# Altium integrated library NSC Logic Gate.IntLib: 603 symbols (part 8 of 13)
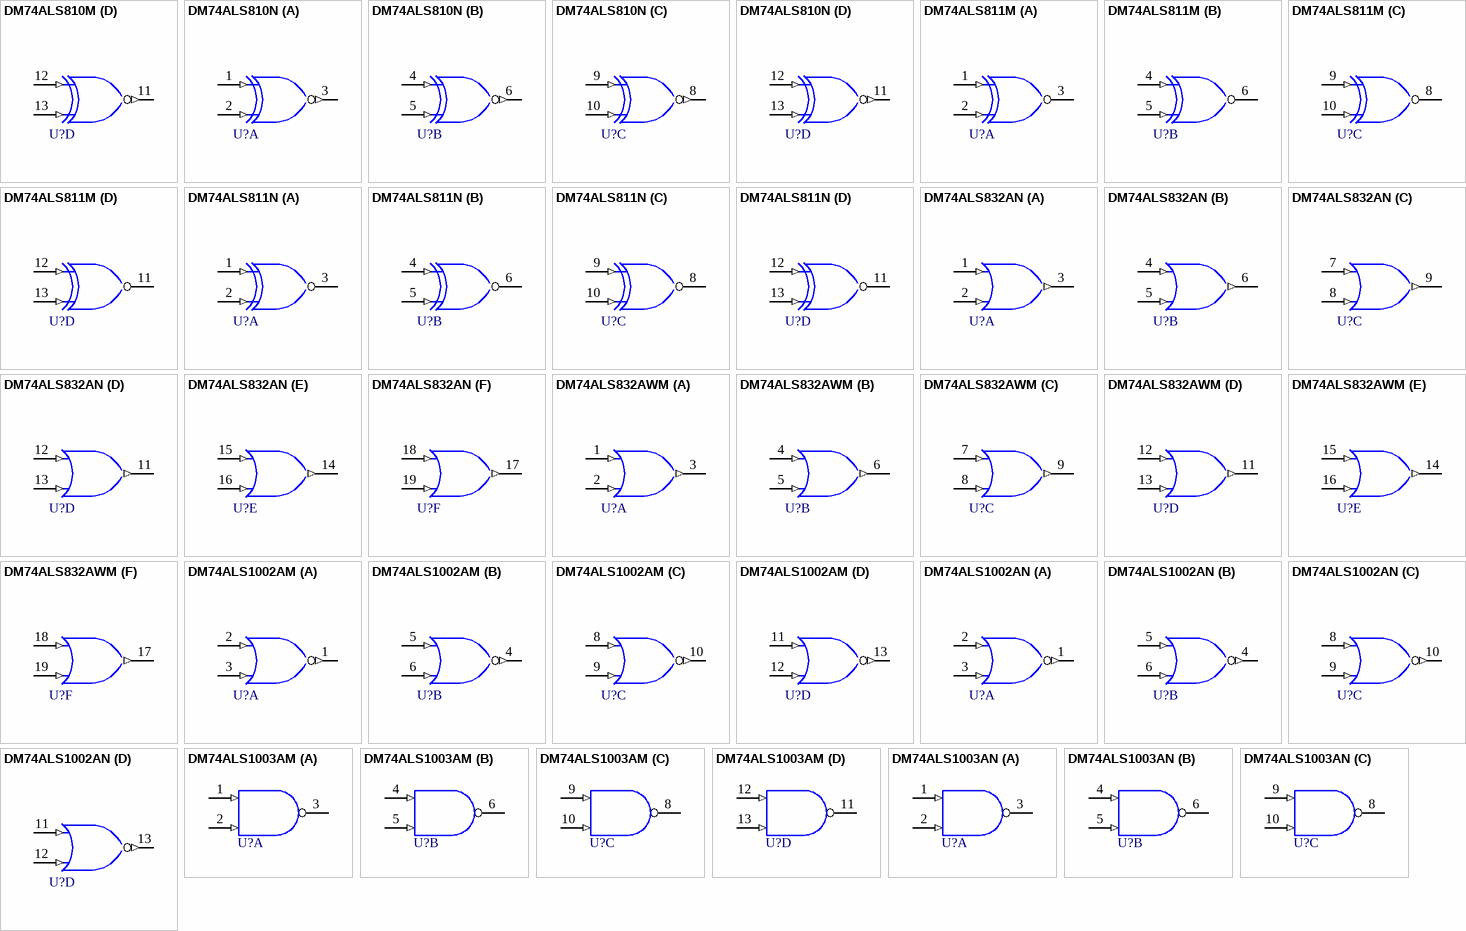
[diagram p61: symbols DM74ALS810M to DM74ALS1003AN]

## DM74ALS810M
designator U?
Quad 2-Input Exclusive-NOR Gates; Published: 15-Apr-2002; LatestRevisionDate: 13-Apr-2006; LatestRevisionNote: IPC-7351 Footprint Added.; DatasheetVersion: 1987; PackageVersion: 2000; PackageReference: M14A; Publisher: Altium Limited; PackageDescription: 14-Pin Small Outline Integrated Circuit 1.27 mm Pitch; Code_IPC: SOIC127P600-14; ComponentLink1Description: Manufacturer Link; ComponentLink1URL: http://www.national.com/
footprint M14A_N (SOIC, 14-Leads, Body 8.6x3.9mm, Pitch 1.27mm, IPC Medium Density)
footprint M14A_L (SOIC, 14-Leads, Body 8.6x3.9mm, Pitch 1.27mm, IPC High Density)
footprint M14A_M (SOIC, 14-Leads, Body 8.6x3.9mm, Pitch 1.27mm, IPC Low Density)
3D model M14A (14-Pin Small Outline Integrated Circuit 1.27 mm Pitch)
signal-integrity model DM74ALS810M
pins on every part: 7 GND (power) hidden to GND, 14 VCC (power) hidden to VCC
part A pins: 1 A (in), 2 B (in), 3 Y (out)
part B pins: 4 A (in), 5 B (in), 6 Y (out)
part C pins: 8 Y (out), 9 A (in), 10 B (in)
part D pins: 11 Y (out), 12 A (in), 13 B (in)

## DM74ALS810N
designator U?
Quad 2-Input Exclusive-NOR Gates; Published: 15-Apr-2002; LatestRevisionDate: 06-Jun-2005; LatestRevisionNote: Stylized 3D Model Added.; DatasheetVersion: 1987; PackageVersion: 2000; PackageReference: N14A; Publisher: Altium Limited; PackageDescription: DIP; 14 Leads; Row Spacing 7.62 mm; Pitch 2.54 mm; ComponentLink1Description: Manufacturer Link; ComponentLink1URL: http://www.national.com/
footprint N14A (DIP; 14 Leads; Row Spacing 7.62 mm; Pitch 2.54 mm)
3D model N14A (DIP; 14 Leads; Row Spacing 7.62 mm; Pitch 2.54 mm)
signal-integrity model DM74ALS810N
pins on every part: 7 GND (power) hidden to GND, 14 VCC (power) hidden to VCC
part A pins: 1 A (in), 2 B (in), 3 Y (out)
part B pins: 4 A (in), 5 B (in), 6 Y (out)
part C pins: 8 Y (out), 9 A (in), 10 B (in)
part D pins: 11 Y (out), 12 A (in), 13 B (in)

## DM74ALS811M
designator U?
Quad 2-Input Exclusive-NOR Gates with Open-Collector Outputs; Published: 15-Apr-2002; LatestRevisionDate: 13-Apr-2006; LatestRevisionNote: IPC-7351 Footprint Added.; DatasheetVersion: 1987; PackageVersion: 2000; PackageReference: M14A; Publisher: Altium Limited; PackageDescription: 14-Pin Small Outline Integrated Circuit 1.27 mm Pitch; Code_IPC: SOIC127P600-14; ComponentLink1Description: Manufacturer Link; ComponentLink1URL: http://www.national.com/
footprint M14A_N (SOIC, 14-Leads, Body 8.6x3.9mm, Pitch 1.27mm, IPC Medium Density)
footprint M14A_L (SOIC, 14-Leads, Body 8.6x3.9mm, Pitch 1.27mm, IPC High Density)
footprint M14A_M (SOIC, 14-Leads, Body 8.6x3.9mm, Pitch 1.27mm, IPC Low Density)
3D model M14A (14-Pin Small Outline Integrated Circuit 1.27 mm Pitch)
signal-integrity model DM74ALS811M
pins on every part: 7 GND (power) hidden to GND, 14 VCC (power) hidden to VCC
part A pins: 1 A (in), 2 B (in), 3 Y (oc)
part B pins: 4 A (in), 5 B (in), 6 Y (oc)
part C pins: 8 Y (oc), 9 A (in), 10 B (in)
part D pins: 11 Y (oc), 12 A (in), 13 B (in)

## DM74ALS811N
designator U?
Quad 2-Input Exclusive-NOR Gates with Open-Collector Outputs; Published: 15-Apr-2002; LatestRevisionDate: 06-Jun-2005; LatestRevisionNote: Stylized 3D Model Added.; DatasheetVersion: 1987; PackageVersion: 2000; PackageReference: N14A; Publisher: Altium Limited; PackageDescription: DIP; 14 Leads; Row Spacing 7.62 mm; Pitch 2.54 mm; ComponentLink1Description: Manufacturer Link; ComponentLink1URL: http://www.national.com/
footprint N14A (DIP; 14 Leads; Row Spacing 7.62 mm; Pitch 2.54 mm)
3D model N14A (DIP; 14 Leads; Row Spacing 7.62 mm; Pitch 2.54 mm)
signal-integrity model DM74ALS811N
pins on every part: 7 GND (power) hidden to GND, 14 VCC (power) hidden to VCC
part A pins: 1 A (in), 2 B (in), 3 Y (oc)
part B pins: 4 A (in), 5 B (in), 6 Y (oc)
part C pins: 8 Y (oc), 9 A (in), 10 B (in)
part D pins: 11 Y (oc), 12 A (in), 13 B (in)

## DM74ALS832AN
designator U?
Hex 2-Input OR Drivers; Published: 15-Apr-2002; LatestRevisionDate: 06-Jun-2005; LatestRevisionNote: Stylized 3D Model Added.; DatasheetVersion: 1987; PackageVersion: 2000; PackageReference: N20A; Publisher: Altium Limited; PackageDescription: DIP; 20 Leads; Row Spacing 7.62 mm; Pitch 2.54 mm; Code_JEDEC: MS-001-AD; ComponentLink1Description: Manufacturer Link; ComponentLink1URL: http://www.national.com/
footprint N20A (DIP; 20 Leads; Row Spacing 7.62 mm; Pitch 2.54 mm)
3D model N20A (DIP; 20 Leads; Row Spacing 7.62 mm; Pitch 2.54 mm)
signal-integrity model DM74ALS832AN
pins on every part: 10 GND (power) hidden to GND, 20 VCC (power) hidden to VCC
part A pins: 1 A (in), 2 B (in), 3 Y (out)
part B pins: 4 A (in), 5 B (in), 6 Y (out)
part C pins: 7 A (in), 8 B (in), 9 Y (out)
part D pins: 11 Y (out), 12 A (in), 13 B (in)
part E pins: 14 Y (out), 15 A (in), 16 B (in)
part F pins: 17 Y (out), 18 A (in), 19 B (in)

## DM74ALS832AWM
designator U?
Hex 2-Input OR Drivers; Published: 15-Apr-2002; LatestRevisionDate: 13-Apr-2006; LatestRevisionNote: IPC-7351 Footprint Added.; DatasheetVersion: 1987; PackageVersion: 2000; PackageReference: M20B; Publisher: Altium Limited; PackageDescription: 20-Pin Small Outline Integrated Circuit 1.27 mm Pitch; Code_JEDEC: MS-013-AC; Code_IPC: SOIC127P1030-20; ComponentLink1Description: Manufacturer Link; ComponentLink1URL: http://www.national.com/
footprint M20B_N (SOIC, 20-Leads, Body 12.8x7.5mm, Pitch 1.27mm, IPC Medium Density)
footprint M20B_L (SOIC, 20-Leads, Body 12.8x7.5mm, Pitch 1.27mm, IPC High Density)
footprint M20B_M (SOIC, 20-Leads, Body 12.8x7.5mm, Pitch 1.27mm, IPC Low Density)
3D model M20B (20-Pin Small Outline Integrated Circuit 1.27 mm Pitch)
signal-integrity model DM74ALS832AWM
pins on every part: 10 GND (power) hidden to GND, 20 VCC (power) hidden to VCC
part A pins: 1 A (in), 2 B (in), 3 Y (out)
part B pins: 4 A (in), 5 B (in), 6 Y (out)
part C pins: 7 A (in), 8 B (in), 9 Y (out)
part D pins: 11 Y (out), 12 A (in), 13 B (in)
part E pins: 14 Y (out), 15 A (in), 16 B (in)
part F pins: 17 Y (out), 18 A (in), 19 B (in)

## DM74ALS1002AM
designator U?
Quadruple 2-Input Positive-NOR Buffers; Published: 15-Apr-2002; LatestRevisionDate: 13-Apr-2006; LatestRevisionNote: IPC-7351 Footprint Added.; DatasheetVersion: 1987; PackageVersion: 2000; PackageReference: M14A; Publisher: Altium Limited; PackageDescription: 14-Pin Small Outline Integrated Circuit 1.27 mm Pitch; Code_IPC: SOIC127P600-14; ComponentLink1Description: Manufacturer Link; ComponentLink1URL: http://www.national.com/
footprint M14A_N (SOIC, 14-Leads, Body 8.6x3.9mm, Pitch 1.27mm, IPC Medium Density)
footprint M14A_L (SOIC, 14-Leads, Body 8.6x3.9mm, Pitch 1.27mm, IPC High Density)
footprint M14A_M (SOIC, 14-Leads, Body 8.6x3.9mm, Pitch 1.27mm, IPC Low Density)
3D model M14A (14-Pin Small Outline Integrated Circuit 1.27 mm Pitch)
signal-integrity model DM74ALS1002AM
pins on every part: 7 GND (power) hidden to GND, 14 VCC (power) hidden to VCC
part A pins: 1 Y (out), 2 A (in), 3 B (in)
part B pins: 4 Y (out), 5 A (in), 6 B (in)
part C pins: 8 A (in), 9 B (in), 10 Y (out)
part D pins: 11 A (in), 12 B (in), 13 Y (out)

## DM74ALS1002AN
designator U?
Quadruple 2-Input Positive-NOR Buffers; Published: 15-Apr-2002; LatestRevisionDate: 06-Jun-2005; LatestRevisionNote: Stylized 3D Model Added.; DatasheetVersion: 1987; PackageVersion: 2000; PackageReference: N14A; Publisher: Altium Limited; PackageDescription: DIP; 14 Leads; Row Spacing 7.62 mm; Pitch 2.54 mm; ComponentLink1Description: Manufacturer Link; ComponentLink1URL: http://www.national.com/
footprint N14A (DIP; 14 Leads; Row Spacing 7.62 mm; Pitch 2.54 mm)
3D model N14A (DIP; 14 Leads; Row Spacing 7.62 mm; Pitch 2.54 mm)
signal-integrity model DM74ALS1002AN
pins on every part: 7 GND (power) hidden to GND, 14 VCC (power) hidden to VCC
part A pins: 1 Y (out), 2 A (in), 3 B (in)
part B pins: 4 Y (out), 5 A (in), 6 B (in)
part C pins: 8 A (in), 9 B (in), 10 Y (out)
part D pins: 11 A (in), 12 B (in), 13 Y (out)

## DM74ALS1003AM
designator U?
Quadruple 2-Input NAND Buffers with Open-Collector Outputs; Published: 15-Apr-2002; LatestRevisionDate: 13-Apr-2006; LatestRevisionNote: IPC-7351 Footprint Added.; DatasheetVersion: 1987; PackageVersion: 2000; PackageReference: M14A; Publisher: Altium Limited; PackageDescription: 14-Pin Small Outline Integrated Circuit 1.27 mm Pitch; Code_IPC: SOIC127P600-14; ComponentLink1Description: Manufacturer Link; ComponentLink1URL: http://www.national.com/
footprint M14A_N (SOIC, 14-Leads, Body 8.6x3.9mm, Pitch 1.27mm, IPC Medium Density)
footprint M14A_L (SOIC, 14-Leads, Body 8.6x3.9mm, Pitch 1.27mm, IPC High Density)
footprint M14A_M (SOIC, 14-Leads, Body 8.6x3.9mm, Pitch 1.27mm, IPC Low Density)
3D model M14A (14-Pin Small Outline Integrated Circuit 1.27 mm Pitch)
signal-integrity model DM74ALS1003AM
pins on every part: 7 GND (power) hidden to GND, 14 VCC (power) hidden to VCC
part A pins: 1 A (in), 2 B (in), 3 Y (oc)
part B pins: 4 A (in), 5 B (in), 6 Y (oc)
part C pins: 8 Y (oc), 9 A (in), 10 B (in)
part D pins: 11 Y (oc), 12 A (in), 13 B (in)

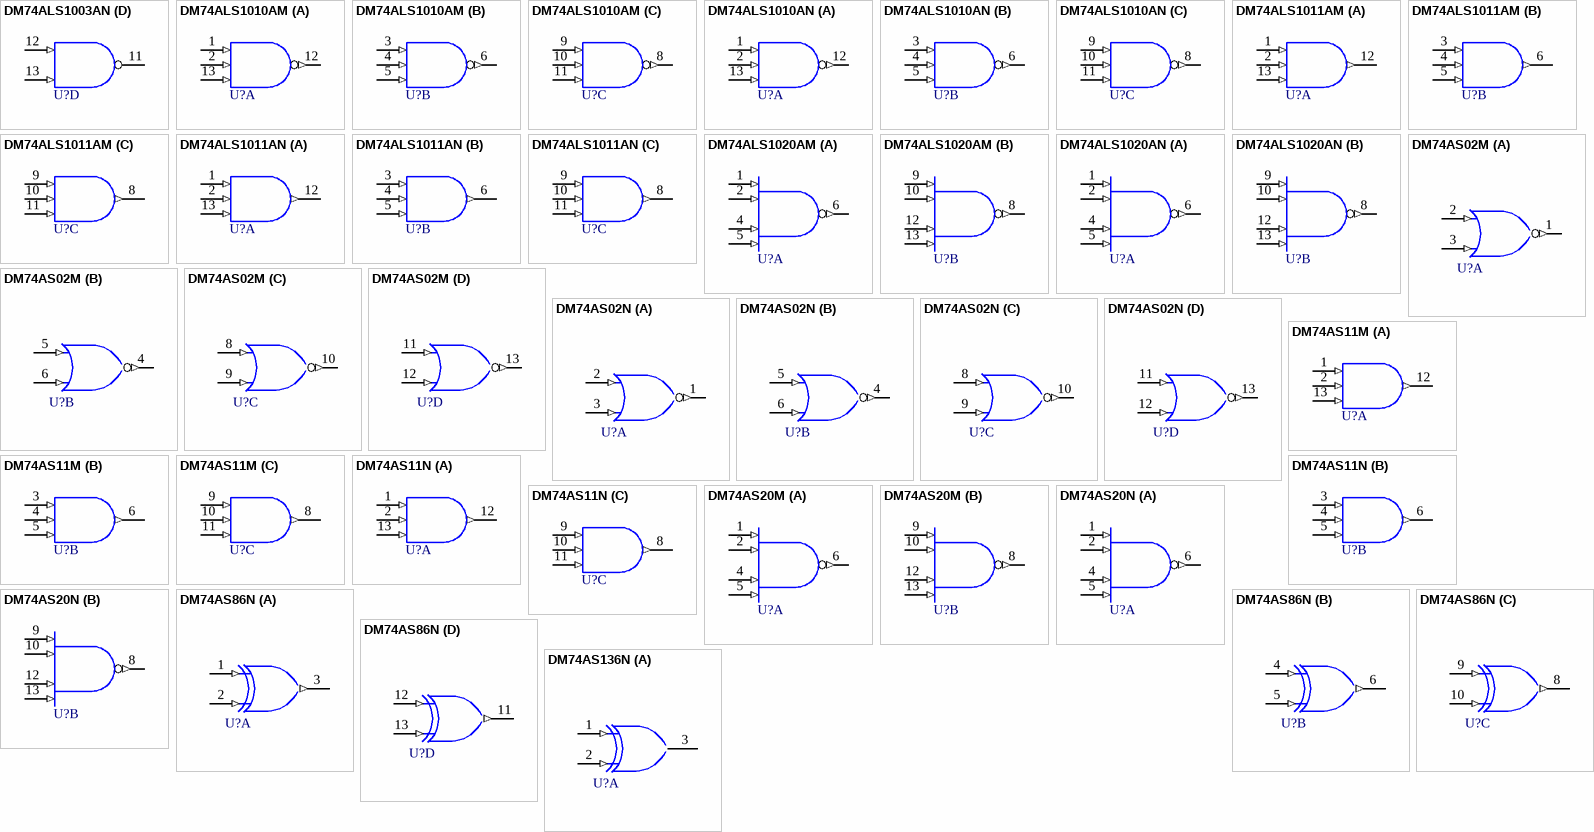
[diagram p31: symbols DM74ALS1003AN to DM74AS136N]

## DM74ALS1003AN
designator U?
Quadruple 2-Input NAND Buffers with Open-Collector Outputs; Published: 15-Apr-2002; LatestRevisionDate: 06-Jun-2005; LatestRevisionNote: Stylized 3D Model Added.; DatasheetVersion: 1987; PackageVersion: 2000; PackageReference: N14A; Publisher: Altium Limited; PackageDescription: DIP; 14 Leads; Row Spacing 7.62 mm; Pitch 2.54 mm; ComponentLink1Description: Manufacturer Link; ComponentLink1URL: http://www.national.com/
footprint N14A (DIP; 14 Leads; Row Spacing 7.62 mm; Pitch 2.54 mm)
3D model N14A (DIP; 14 Leads; Row Spacing 7.62 mm; Pitch 2.54 mm)
signal-integrity model DM74ALS1003AN
pins on every part: 7 GND (power) hidden to GND, 14 VCC (power) hidden to VCC
part A pins: 1 A (in), 2 B (in), 3 Y (oc)
part B pins: 4 A (in), 5 B (in), 6 Y (oc)
part C pins: 8 Y (oc), 9 A (in), 10 B (in)
part D pins: 11 Y (oc), 12 A (in), 13 B (in)

## DM74ALS1010AM
designator U?
Triple 3-Input NAND Buffer; Published: 15-Apr-2002; LatestRevisionDate: 13-Apr-2006; LatestRevisionNote: IPC-7351 Footprint Added.; DatasheetVersion: 1987; PackageVersion: 2000; PackageReference: M14A; Publisher: Altium Limited; PackageDescription: 14-Pin Small Outline Integrated Circuit 1.27 mm Pitch; Code_IPC: SOIC127P600-14; ComponentLink1Description: Manufacturer Link; ComponentLink1URL: http://www.national.com/
footprint M14A_N (SOIC, 14-Leads, Body 8.6x3.9mm, Pitch 1.27mm, IPC Medium Density)
footprint M14A_L (SOIC, 14-Leads, Body 8.6x3.9mm, Pitch 1.27mm, IPC High Density)
footprint M14A_M (SOIC, 14-Leads, Body 8.6x3.9mm, Pitch 1.27mm, IPC Low Density)
3D model M14A (14-Pin Small Outline Integrated Circuit 1.27 mm Pitch)
signal-integrity model DM74ALS1010AM
pins on every part: 7 GND (power) hidden to GND, 14 VCC (power) hidden to VCC
part A pins: 1 A (in), 2 B (in), 12 Y (out), 13 C (in)
part B pins: 3 A (in), 4 B (in), 5 C (in), 6 Y (out)
part C pins: 8 Y (out), 9 A (in), 10 B (in), 11 C (in)

## DM74ALS1010AN
designator U?
Triple 3-Input NAND Buffer; Published: 15-Apr-2002; LatestRevisionDate: 06-Jun-2005; LatestRevisionNote: Stylized 3D Model Added.; DatasheetVersion: 1987; PackageVersion: 2000; PackageReference: N14A; Publisher: Altium Limited; PackageDescription: DIP; 14 Leads; Row Spacing 7.62 mm; Pitch 2.54 mm; ComponentLink1Description: Manufacturer Link; ComponentLink1URL: http://www.national.com/
footprint N14A (DIP; 14 Leads; Row Spacing 7.62 mm; Pitch 2.54 mm)
3D model N14A (DIP; 14 Leads; Row Spacing 7.62 mm; Pitch 2.54 mm)
signal-integrity model DM74ALS1010AN
pins on every part: 7 GND (power) hidden to GND, 14 VCC (power) hidden to VCC
part A pins: 1 A (in), 2 B (in), 12 Y (out), 13 C (in)
part B pins: 3 A (in), 4 B (in), 5 C (in), 6 Y (out)
part C pins: 8 Y (out), 9 A (in), 10 B (in), 11 C (in)

## DM74ALS1011AM
designator U?
Triple 3-Input AND Buffer; Published: 15-Apr-2002; LatestRevisionDate: 13-Apr-2006; LatestRevisionNote: IPC-7351 Footprint Added.; DatasheetVersion: 1987; PackageVersion: 2000; PackageReference: M14A; Publisher: Altium Limited; PackageDescription: 14-Pin Small Outline Integrated Circuit 1.27 mm Pitch; Code_IPC: SOIC127P600-14; ComponentLink1Description: Manufacturer Link; ComponentLink1URL: http://www.national.com/
footprint M14A_N (SOIC, 14-Leads, Body 8.6x3.9mm, Pitch 1.27mm, IPC Medium Density)
footprint M14A_L (SOIC, 14-Leads, Body 8.6x3.9mm, Pitch 1.27mm, IPC High Density)
footprint M14A_M (SOIC, 14-Leads, Body 8.6x3.9mm, Pitch 1.27mm, IPC Low Density)
3D model M14A (14-Pin Small Outline Integrated Circuit 1.27 mm Pitch)
signal-integrity model DM74ALS1011AM
pins on every part: 7 GND (power) hidden to GND, 14 VCC (power) hidden to VCC
part A pins: 1 A (in), 2 B (in), 12 Y (out), 13 C (in)
part B pins: 3 A (in), 4 B (in), 5 C (in), 6 Y (out)
part C pins: 8 Y (out), 9 A (in), 10 B (in), 11 C (in)

## DM74ALS1011AN
designator U?
Triple 3-Input AND Buffer; Published: 15-Apr-2002; LatestRevisionDate: 06-Jun-2005; LatestRevisionNote: Stylized 3D Model Added.; DatasheetVersion: 1987; PackageVersion: 2000; PackageReference: N14A; Publisher: Altium Limited; PackageDescription: DIP; 14 Leads; Row Spacing 7.62 mm; Pitch 2.54 mm; ComponentLink1Description: Manufacturer Link; ComponentLink1URL: http://www.national.com/
footprint N14A (DIP; 14 Leads; Row Spacing 7.62 mm; Pitch 2.54 mm)
3D model N14A (DIP; 14 Leads; Row Spacing 7.62 mm; Pitch 2.54 mm)
signal-integrity model DM74ALS1011AN
pins on every part: 7 GND (power) hidden to GND, 14 VCC (power) hidden to VCC
part A pins: 1 A (in), 2 B (in), 12 Y (out), 13 C (in)
part B pins: 3 A (in), 4 B (in), 5 C (in), 6 Y (out)
part C pins: 8 Y (out), 9 A (in), 10 B (in), 11 C (in)

## DM74ALS1020AM
designator U?
Dual 4-Input NAND Buffer; Note: Pins 3 and 11 are NC & not drawn.; Published: 15-Apr-2002; LatestRevisionDate: 13-Apr-2006; LatestRevisionNote: IPC-7351 Footprint Added.; DatasheetVersion: 1987; PackageVersion: 2000; PackageReference: M14A; Publisher: Altium Limited; PackageDescription: 14-Pin Small Outline Integrated Circuit 1.27 mm Pitch; Code_IPC: SOIC127P600-14; ComponentLink1Description: Manufacturer Link; ComponentLink1URL: http://www.national.com/
footprint M14A_N (SOIC, 14-Leads, Body 8.6x3.9mm, Pitch 1.27mm, IPC Medium Density)
footprint M14A_L (SOIC, 14-Leads, Body 8.6x3.9mm, Pitch 1.27mm, IPC High Density)
footprint M14A_M (SOIC, 14-Leads, Body 8.6x3.9mm, Pitch 1.27mm, IPC Low Density)
3D model M14A (14-Pin Small Outline Integrated Circuit 1.27 mm Pitch)
signal-integrity model DM74ALS1020AM
pins on every part: 7 GND (power) hidden to GND, 14 VCC (power) hidden to VCC
part A pins: 1 A (in), 2 B (in), 4 C (in), 5 D (in), 6 Y (out)
part B pins: 8 Y (out), 9 A (in), 10 B (in), 12 C (in), 13 D (in)

## DM74ALS1020AN
designator U?
Dual 4-Input NAND Buffer; Note: Pins 3 and 11 are NC & not drawn.; Published: 15-Apr-2002; LatestRevisionDate: 06-Jun-2005; LatestRevisionNote: Stylized 3D Model Added.; DatasheetVersion: 1987; PackageVersion: 2000; PackageReference: N14A; Publisher: Altium Limited; PackageDescription: DIP; 14 Leads; Row Spacing 7.62 mm; Pitch 2.54 mm; ComponentLink1Description: Manufacturer Link; ComponentLink1URL: http://www.national.com/
footprint N14A (DIP; 14 Leads; Row Spacing 7.62 mm; Pitch 2.54 mm)
3D model N14A (DIP; 14 Leads; Row Spacing 7.62 mm; Pitch 2.54 mm)
signal-integrity model DM74ALS1020AN
pins on every part: 7 GND (power) hidden to GND, 14 VCC (power) hidden to VCC
part A pins: 1 A (in), 2 B (in), 4 C (in), 5 D (in), 6 Y (out)
part B pins: 8 Y (out), 9 A (in), 10 B (in), 12 C (in), 13 D (in)

## DM74AS02M
designator U?
Quad 2-Input NOR Gates; Published: 15-Apr-2002; LatestRevisionDate: 13-Apr-2006; LatestRevisionNote: IPC-7351 Footprint Added.; DatasheetVersion: 1990; PackageVersion: 2000; PackageReference: M14A; Publisher: Altium Limited; PackageDescription: 14-Pin Small Outline Integrated Circuit 1.27 mm Pitch; Code_IPC: SOIC127P600-14; ComponentLink1Description: Manufacturer Link; ComponentLink1URL: http://www.national.com/
footprint M14A_N (SOIC, 14-Leads, Body 8.6x3.9mm, Pitch 1.27mm, IPC Medium Density)
footprint M14A_L (SOIC, 14-Leads, Body 8.6x3.9mm, Pitch 1.27mm, IPC High Density)
footprint M14A_M (SOIC, 14-Leads, Body 8.6x3.9mm, Pitch 1.27mm, IPC Low Density)
3D model M14A (14-Pin Small Outline Integrated Circuit 1.27 mm Pitch)
signal-integrity model DM74AS02M
pins on every part: 7 GND (power) hidden to GND, 14 VCC (power) hidden to VCC
part A pins: 1 Y (out), 2 A (in), 3 B (in)
part B pins: 4 Y (out), 5 A (in), 6 B (in)
part C pins: 8 A (in), 9 B (in), 10 Y (out)
part D pins: 11 A (in), 12 B (in), 13 Y (out)

## DM74AS02N
designator U?
Quad 2-Input NOR Gates; Published: 15-Apr-2002; LatestRevisionDate: 06-Jun-2005; LatestRevisionNote: Stylized 3D Model Added.; DatasheetVersion: 1990; PackageVersion: 2000; PackageReference: N14A; Publisher: Altium Limited; PackageDescription: DIP; 14 Leads; Row Spacing 7.62 mm; Pitch 2.54 mm; ComponentLink1Description: Manufacturer Link; ComponentLink1URL: http://www.national.com/
footprint N14A (DIP; 14 Leads; Row Spacing 7.62 mm; Pitch 2.54 mm)
3D model N14A (DIP; 14 Leads; Row Spacing 7.62 mm; Pitch 2.54 mm)
signal-integrity model DM74AS02N
pins on every part: 7 GND (power) hidden to GND, 14 VCC (power) hidden to VCC
part A pins: 1 Y (out), 2 A (in), 3 B (in)
part B pins: 4 Y (out), 5 A (in), 6 B (in)
part C pins: 8 A (in), 9 B (in), 10 Y (out)
part D pins: 11 A (in), 12 B (in), 13 Y (out)

## DM74AS11M
designator U?
Triple 3-Input AND Gate; Published: 15-Apr-2002; LatestRevisionDate: 13-Apr-2006; LatestRevisionNote: IPC-7351 Footprint Added.; DatasheetVersion: 1990; PackageVersion: 2000; PackageReference: M14A; Publisher: Altium Limited; PackageDescription: 14-Pin Small Outline Integrated Circuit 1.27 mm Pitch; Code_IPC: SOIC127P600-14; ComponentLink1Description: Manufacturer Link; ComponentLink1URL: http://www.national.com/
footprint M14A_N (SOIC, 14-Leads, Body 8.6x3.9mm, Pitch 1.27mm, IPC Medium Density)
footprint M14A_L (SOIC, 14-Leads, Body 8.6x3.9mm, Pitch 1.27mm, IPC High Density)
footprint M14A_M (SOIC, 14-Leads, Body 8.6x3.9mm, Pitch 1.27mm, IPC Low Density)
3D model M14A (14-Pin Small Outline Integrated Circuit 1.27 mm Pitch)
signal-integrity model DM74AS11M
pins on every part: 7 GND (power) hidden to GND, 14 VCC (power) hidden to VCC
part A pins: 1 A (in), 2 B (in), 12 Y (out), 13 C (in)
part B pins: 3 A (in), 4 B (in), 5 C (in), 6 Y (out)
part C pins: 8 Y (out), 9 A (in), 10 B (in), 11 C (in)

## DM74AS11N
designator U?
Triple 3-Input AND Gate; Published: 15-Apr-2002; LatestRevisionDate: 06-Jun-2005; LatestRevisionNote: Stylized 3D Model Added.; DatasheetVersion: 1990; PackageVersion: 2000; PackageReference: N14A; Publisher: Altium Limited; PackageDescription: DIP; 14 Leads; Row Spacing 7.62 mm; Pitch 2.54 mm; ComponentLink1Description: Manufacturer Link; ComponentLink1URL: http://www.national.com/
footprint N14A (DIP; 14 Leads; Row Spacing 7.62 mm; Pitch 2.54 mm)
3D model N14A (DIP; 14 Leads; Row Spacing 7.62 mm; Pitch 2.54 mm)
signal-integrity model DM74AS11N
pins on every part: 7 GND (power) hidden to GND, 14 VCC (power) hidden to VCC
part A pins: 1 A (in), 2 B (in), 12 Y (out), 13 C (in)
part B pins: 3 A (in), 4 B (in), 5 C (in), 6 Y (out)
part C pins: 8 Y (out), 9 A (in), 10 B (in), 11 C (in)

## DM74AS20M
designator U?
Dual 4-Input NAND Gate; Note: Pins 3 and 11 are NC & not drawn.; Published: 15-Apr-2002; LatestRevisionDate: 13-Apr-2006; LatestRevisionNote: IPC-7351 Footprint Added.; DatasheetVersion: 1990; PackageVersion: 2000; PackageReference: M14A; Publisher: Altium Limited; PackageDescription: 14-Pin Small Outline Integrated Circuit 1.27 mm Pitch; Code_IPC: SOIC127P600-14; ComponentLink1Description: Manufacturer Link; ComponentLink1URL: http://www.national.com/
footprint M14A_N (SOIC, 14-Leads, Body 8.6x3.9mm, Pitch 1.27mm, IPC Medium Density)
footprint M14A_L (SOIC, 14-Leads, Body 8.6x3.9mm, Pitch 1.27mm, IPC High Density)
footprint M14A_M (SOIC, 14-Leads, Body 8.6x3.9mm, Pitch 1.27mm, IPC Low Density)
3D model M14A (14-Pin Small Outline Integrated Circuit 1.27 mm Pitch)
signal-integrity model DM74AS20M
pins on every part: 7 GND (power) hidden to GND, 14 VCC (power) hidden to VCC
part A pins: 1 A (in), 2 B (in), 4 C (in), 5 D (in), 6 Y (out)
part B pins: 8 Y (out), 9 A (in), 10 B (in), 12 C (in), 13 D (in)

## DM74AS20N
designator U?
Dual 4-Input NAND Gate; Note: Pins 3 and 11 are NC & not drawn.; Published: 15-Apr-2002; LatestRevisionDate: 06-Jun-2005; LatestRevisionNote: Stylized 3D Model Added.; DatasheetVersion: 1990; PackageVersion: 2000; PackageReference: N14A; Publisher: Altium Limited; PackageDescription: DIP; 14 Leads; Row Spacing 7.62 mm; Pitch 2.54 mm; ComponentLink1Description: Manufacturer Link; ComponentLink1URL: http://www.national.com/
footprint N14A (DIP; 14 Leads; Row Spacing 7.62 mm; Pitch 2.54 mm)
3D model N14A (DIP; 14 Leads; Row Spacing 7.62 mm; Pitch 2.54 mm)
signal-integrity model DM74AS20N
pins on every part: 7 GND (power) hidden to GND, 14 VCC (power) hidden to VCC
part A pins: 1 A (in), 2 B (in), 4 C (in), 5 D (in), 6 Y (out)
part B pins: 8 Y (out), 9 A (in), 10 B (in), 12 C (in), 13 D (in)

## DM74AS86N
designator U?
Quad 2-Input Exclusive-OR Gate; Published: 15-Apr-2002; LatestRevisionDate: 06-Jun-2005; LatestRevisionNote: Stylized 3D Model Added.; DatasheetVersion: 1990; PackageVersion: 2000; PackageReference: N14A; Publisher: Altium Limited; PackageDescription: DIP; 14 Leads; Row Spacing 7.62 mm; Pitch 2.54 mm; ComponentLink1Description: Manufacturer Link; ComponentLink1URL: http://www.national.com/
footprint N14A (DIP; 14 Leads; Row Spacing 7.62 mm; Pitch 2.54 mm)
3D model N14A (DIP; 14 Leads; Row Spacing 7.62 mm; Pitch 2.54 mm)
signal-integrity model DM74AS86N
pins on every part: 7 GND (power) hidden to GND, 14 VCC (power) hidden to VCC
part A pins: 1 A (in), 2 B (in), 3 Y (out)
part B pins: 4 A (in), 5 B (in), 6 Y (out)
part C pins: 8 Y (out), 9 A (in), 10 B (in)
part D pins: 11 Y (out), 12 A (in), 13 B (in)

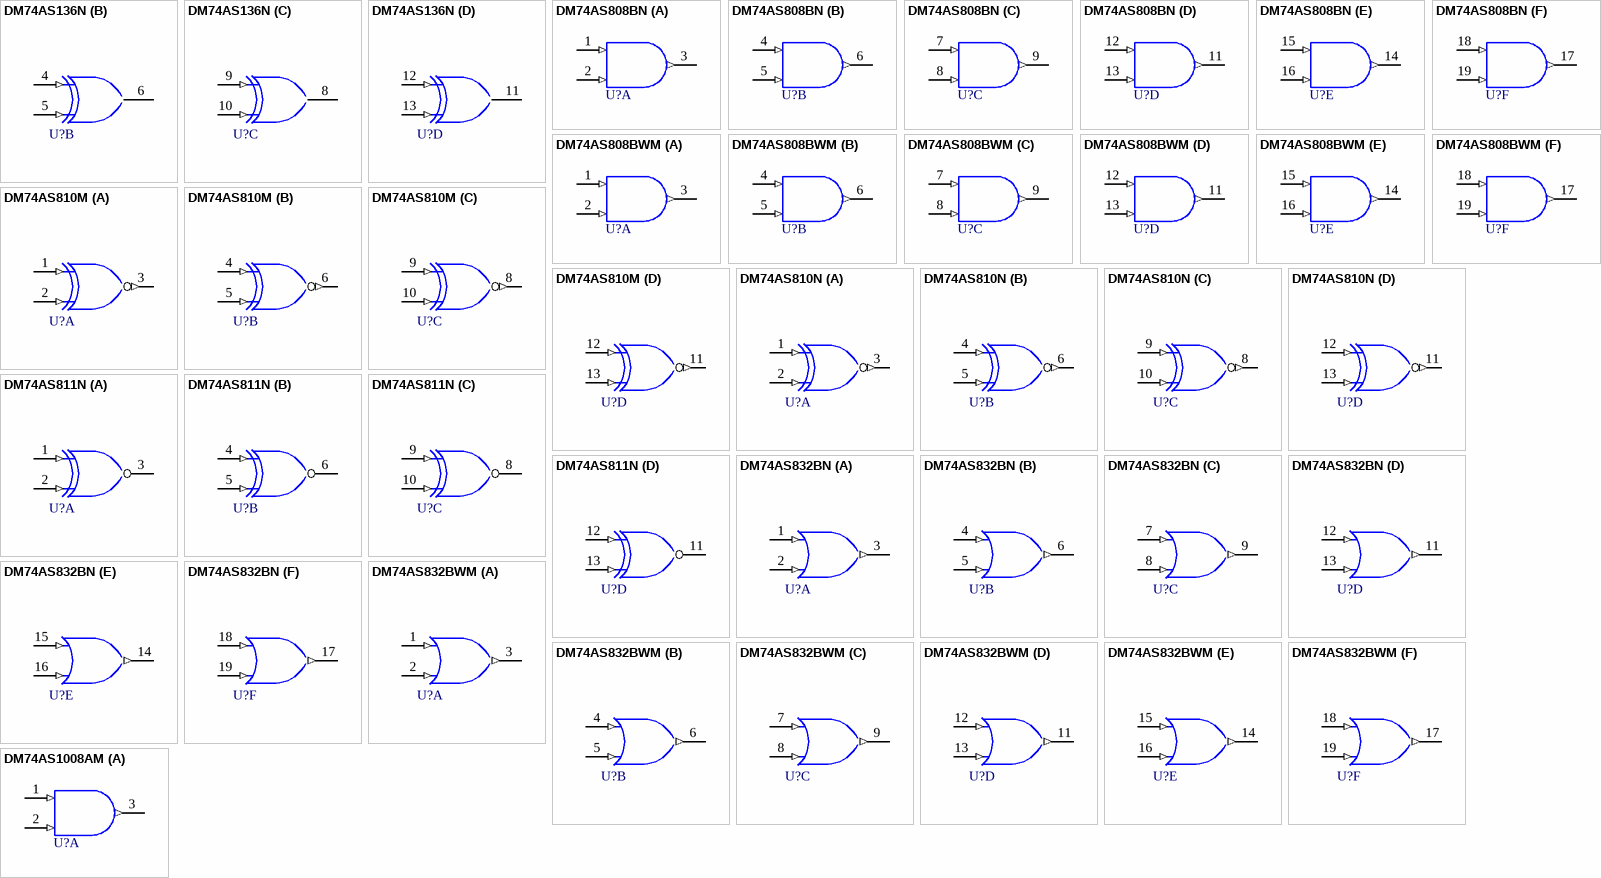
[diagram p32: symbols DM74AS136N to DM74AS1008AM]

## DM74AS136N
designator U?
Quad 2-Input Exclusive-OR Gate with Open-Collector Outputs; Published: 15-Apr-2002; LatestRevisionDate: 06-Jun-2005; LatestRevisionNote: Stylized 3D Model Added.; DatasheetVersion: 1990; PackageVersion: 2000; PackageReference: N14A; Publisher: Altium Limited; PackageDescription: DIP; 14 Leads; Row Spacing 7.62 mm; Pitch 2.54 mm; ComponentLink1Description: Manufacturer Link; ComponentLink1URL: http://www.national.com/
footprint N14A (DIP; 14 Leads; Row Spacing 7.62 mm; Pitch 2.54 mm)
3D model N14A (DIP; 14 Leads; Row Spacing 7.62 mm; Pitch 2.54 mm)
signal-integrity model DM74AS136N
pins on every part: 7 GND (power) hidden to GND, 14 VCC (power) hidden to VCC
part A pins: 1 A (in), 2 B (in), 3 Y (oc)
part B pins: 4 A (in), 5 B (in), 6 Y (oc)
part C pins: 8 Y (oc), 9 A (in), 10 B (in)
part D pins: 11 Y (oc), 12 A (in), 13 B (in)

## DM74AS808BN
designator U?
Hex 2-Input AND Driver; Published: 15-Apr-2002; LatestRevisionDate: 06-Jun-2005; LatestRevisionNote: Stylized 3D Model Added.; DatasheetVersion: 1990; PackageVersion: 2000; PackageReference: N20A; Publisher: Altium Limited; PackageDescription: DIP; 20 Leads; Row Spacing 7.62 mm; Pitch 2.54 mm; Code_JEDEC: MS-001-AD; ComponentLink1Description: Manufacturer Link; ComponentLink1URL: http://www.national.com/
footprint N20A (DIP; 20 Leads; Row Spacing 7.62 mm; Pitch 2.54 mm)
3D model N20A (DIP; 20 Leads; Row Spacing 7.62 mm; Pitch 2.54 mm)
signal-integrity model DM74AS808BN
pins on every part: 10 GND (power) hidden to GND, 20 VCC (power) hidden to VCC
part A pins: 1 A (in), 2 B (in), 3 Y (out)
part B pins: 4 A (in), 5 B (in), 6 Y (out)
part C pins: 7 A (in), 8 B (in), 9 Y (out)
part D pins: 11 Y (out), 12 A (in), 13 B (in)
part E pins: 14 Y (out), 15 A (in), 16 B (in)
part F pins: 17 Y (out), 18 A (in), 19 B (in)

## DM74AS808BWM
designator U?
Hex 2-Input AND Driver; Published: 15-Apr-2002; LatestRevisionDate: 13-Apr-2006; LatestRevisionNote: IPC-7351 Footprint Added.; DatasheetVersion: 1990; PackageVersion: 2000; PackageReference: M20B; Publisher: Altium Limited; PackageDescription: 20-Pin Small Outline Integrated Circuit 1.27 mm Pitch; Code_JEDEC: MS-013-AC; Code_IPC: SOIC127P1030-20; ComponentLink1Description: Manufacturer Link; ComponentLink1URL: http://www.national.com/
footprint M20B_N (SOIC, 20-Leads, Body 12.8x7.5mm, Pitch 1.27mm, IPC Medium Density)
footprint M20B_L (SOIC, 20-Leads, Body 12.8x7.5mm, Pitch 1.27mm, IPC High Density)
footprint M20B_M (SOIC, 20-Leads, Body 12.8x7.5mm, Pitch 1.27mm, IPC Low Density)
3D model M20B (20-Pin Small Outline Integrated Circuit 1.27 mm Pitch)
signal-integrity model DM74AS808BWM
pins on every part: 10 GND (power) hidden to GND, 20 VCC (power) hidden to VCC
part A pins: 1 A (in), 2 B (in), 3 Y (out)
part B pins: 4 A (in), 5 B (in), 6 Y (out)
part C pins: 7 A (in), 8 B (in), 9 Y (out)
part D pins: 11 Y (out), 12 A (in), 13 B (in)
part E pins: 14 Y (out), 15 A (in), 16 B (in)
part F pins: 17 Y (out), 18 A (in), 19 B (in)

## DM74AS810M
designator U?
Quad 2-Input Exclusive-NOR Gate; Published: 15-Apr-2002; LatestRevisionDate: 13-Apr-2006; LatestRevisionNote: IPC-7351 Footprint Added.; DatasheetVersion: 1990; PackageVersion: 2000; PackageReference: M14A; Publisher: Altium Limited; PackageDescription: 14-Pin Small Outline Integrated Circuit 1.27 mm Pitch; Code_IPC: SOIC127P600-14; ComponentLink1Description: Manufacturer Link; ComponentLink1URL: http://www.national.com/
footprint M14A_N (SOIC, 14-Leads, Body 8.6x3.9mm, Pitch 1.27mm, IPC Medium Density)
footprint M14A_L (SOIC, 14-Leads, Body 8.6x3.9mm, Pitch 1.27mm, IPC High Density)
footprint M14A_M (SOIC, 14-Leads, Body 8.6x3.9mm, Pitch 1.27mm, IPC Low Density)
3D model M14A (14-Pin Small Outline Integrated Circuit 1.27 mm Pitch)
signal-integrity model DM74AS810M
pins on every part: 7 GND (power) hidden to GND, 14 VCC (power) hidden to VCC
part A pins: 1 A (in), 2 B (in), 3 Y (out)
part B pins: 4 A (in), 5 B (in), 6 Y (out)
part C pins: 8 Y (out), 9 A (in), 10 B (in)
part D pins: 11 Y (out), 12 A (in), 13 B (in)

## DM74AS810N
designator U?
Quad 2-Input Exclusive-NOR Gate; Published: 15-Apr-2002; LatestRevisionDate: 06-Jun-2005; LatestRevisionNote: Stylized 3D Model Added.; DatasheetVersion: 1990; PackageVersion: 2000; PackageReference: N14A; Publisher: Altium Limited; PackageDescription: DIP; 14 Leads; Row Spacing 7.62 mm; Pitch 2.54 mm; ComponentLink1Description: Manufacturer Link; ComponentLink1URL: http://www.national.com/
footprint N14A (DIP; 14 Leads; Row Spacing 7.62 mm; Pitch 2.54 mm)
3D model N14A (DIP; 14 Leads; Row Spacing 7.62 mm; Pitch 2.54 mm)
signal-integrity model DM74AS810N
pins on every part: 7 GND (power) hidden to GND, 14 VCC (power) hidden to VCC
part A pins: 1 A (in), 2 B (in), 3 Y (out)
part B pins: 4 A (in), 5 B (in), 6 Y (out)
part C pins: 8 Y (out), 9 A (in), 10 B (in)
part D pins: 11 Y (out), 12 A (in), 13 B (in)

## DM74AS811N
designator U?
Quad 2-Input Exclusive-NOR Gate with Open-Collector Outputs; Published: 15-Apr-2002; LatestRevisionDate: 06-Jun-2005; LatestRevisionNote: Stylized 3D Model Added.; DatasheetVersion: 1990; PackageVersion: 2000; PackageReference: N14A; Publisher: Altium Limited; PackageDescription: DIP; 14 Leads; Row Spacing 7.62 mm; Pitch 2.54 mm; ComponentLink1Description: Manufacturer Link; ComponentLink1URL: http://www.national.com/
footprint N14A (DIP; 14 Leads; Row Spacing 7.62 mm; Pitch 2.54 mm)
3D model N14A (DIP; 14 Leads; Row Spacing 7.62 mm; Pitch 2.54 mm)
signal-integrity model DM74AS811N
pins on every part: 7 GND (power) hidden to GND, 14 VCC (power) hidden to VCC
part A pins: 1 A (in), 2 B (in), 3 Y (oc)
part B pins: 4 A (in), 5 B (in), 6 Y (oc)
part C pins: 8 Y (oc), 9 A (in), 10 B (in)
part D pins: 11 Y (oc), 12 A (in), 13 B (in)

## DM74AS832BN
designator U?
Hex 2-Input OR Driver; Published: 15-Apr-2002; LatestRevisionDate: 06-Jun-2005; LatestRevisionNote: Stylized 3D Model Added.; DatasheetVersion: 1990; PackageVersion: 2000; PackageReference: N20A; Publisher: Altium Limited; PackageDescription: DIP; 20 Leads; Row Spacing 7.62 mm; Pitch 2.54 mm; Code_JEDEC: MS-001-AD; ComponentLink1Description: Manufacturer Link; ComponentLink1URL: http://www.national.com/
footprint N20A (DIP; 20 Leads; Row Spacing 7.62 mm; Pitch 2.54 mm)
3D model N20A (DIP; 20 Leads; Row Spacing 7.62 mm; Pitch 2.54 mm)
signal-integrity model DM74AS832BN
pins on every part: 10 GND (power) hidden to GND, 20 VCC (power) hidden to VCC
part A pins: 1 A (in), 2 B (in), 3 Y (out)
part B pins: 4 A (in), 5 B (in), 6 Y (out)
part C pins: 7 A (in), 8 B (in), 9 Y (out)
part D pins: 11 Y (out), 12 A (in), 13 B (in)
part E pins: 14 Y (out), 15 A (in), 16 B (in)
part F pins: 17 Y (out), 18 A (in), 19 B (in)

## DM74AS832BWM
designator U?
Hex 2-Input OR Driver; Published: 15-Apr-2002; LatestRevisionDate: 13-Apr-2006; LatestRevisionNote: IPC-7351 Footprint Added.; DatasheetVersion: 1990; PackageVersion: 2000; PackageReference: M20B; Publisher: Altium Limited; PackageDescription: 20-Pin Small Outline Integrated Circuit 1.27 mm Pitch; Code_JEDEC: MS-013-AC; Code_IPC: SOIC127P1030-20; ComponentLink1Description: Manufacturer Link; ComponentLink1URL: http://www.national.com/
footprint M20B_N (SOIC, 20-Leads, Body 12.8x7.5mm, Pitch 1.27mm, IPC Medium Density)
footprint M20B_L (SOIC, 20-Leads, Body 12.8x7.5mm, Pitch 1.27mm, IPC High Density)
footprint M20B_M (SOIC, 20-Leads, Body 12.8x7.5mm, Pitch 1.27mm, IPC Low Density)
3D model M20B (20-Pin Small Outline Integrated Circuit 1.27 mm Pitch)
signal-integrity model DM74AS832BWM
pins on every part: 10 GND (power) hidden to GND, 20 VCC (power) hidden to VCC
part A pins: 1 A (in), 2 B (in), 3 Y (out)
part B pins: 4 A (in), 5 B (in), 6 Y (out)
part C pins: 7 A (in), 8 B (in), 9 Y (out)
part D pins: 11 Y (out), 12 A (in), 13 B (in)
part E pins: 14 Y (out), 15 A (in), 16 B (in)
part F pins: 17 Y (out), 18 A (in), 19 B (in)

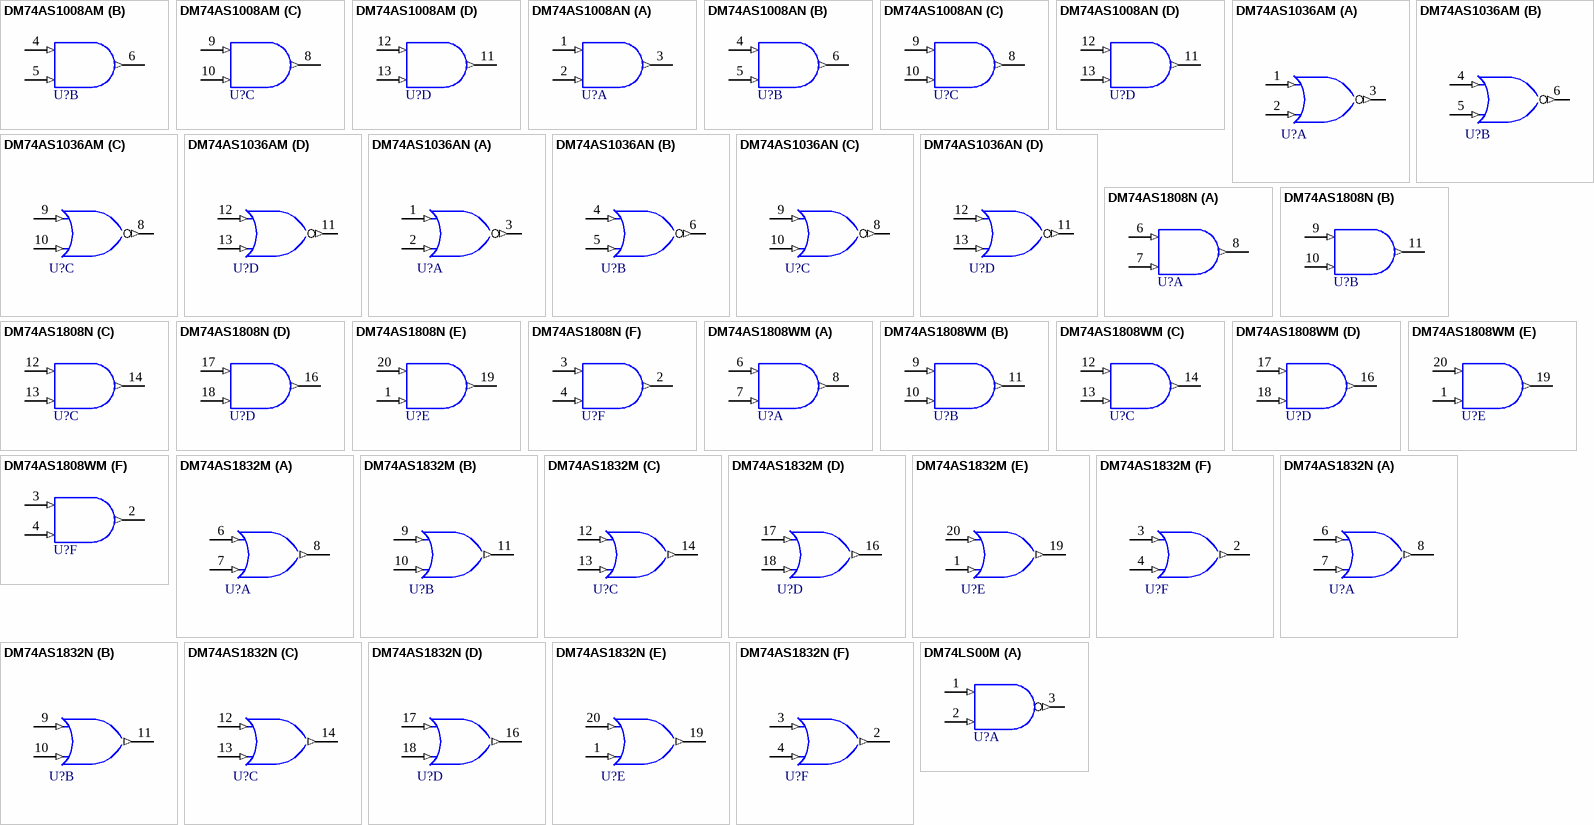
[diagram p33: symbols DM74AS1008AM to DM74LS00M]

## DM74AS1008AM
designator U?
Quadruple 2-Input AND Driver; Published: 15-Apr-2002; LatestRevisionDate: 13-Apr-2006; LatestRevisionNote: IPC-7351 Footprint Added.; DatasheetVersion: 1990; PackageVersion: 2000; PackageReference: M14A; Publisher: Altium Limited; PackageDescription: 14-Pin Small Outline Integrated Circuit 1.27 mm Pitch; Code_IPC: SOIC127P600-14; ComponentLink1Description: Manufacturer Link; ComponentLink1URL: http://www.national.com/
footprint M14A_N (SOIC, 14-Leads, Body 8.6x3.9mm, Pitch 1.27mm, IPC Medium Density)
footprint M14A_L (SOIC, 14-Leads, Body 8.6x3.9mm, Pitch 1.27mm, IPC High Density)
footprint M14A_M (SOIC, 14-Leads, Body 8.6x3.9mm, Pitch 1.27mm, IPC Low Density)
3D model M14A (14-Pin Small Outline Integrated Circuit 1.27 mm Pitch)
signal-integrity model DM74AS1008AM
pins on every part: 7 GND (power) hidden to GND, 14 VCC (power) hidden to VCC
part A pins: 1 A (in), 2 B (in), 3 Y (out)
part B pins: 4 A (in), 5 B (in), 6 Y (out)
part C pins: 8 Y (out), 9 A (in), 10 B (in)
part D pins: 11 Y (out), 12 A (in), 13 B (in)

## DM74AS1008AN
designator U?
Quadruple 2-Input AND Driver; Published: 15-Apr-2002; LatestRevisionDate: 06-Jun-2005; LatestRevisionNote: Stylized 3D Model Added.; DatasheetVersion: 1990; PackageVersion: 2000; PackageReference: N14A; Publisher: Altium Limited; PackageDescription: DIP; 14 Leads; Row Spacing 7.62 mm; Pitch 2.54 mm; ComponentLink1Description: Manufacturer Link; ComponentLink1URL: http://www.national.com/
footprint N14A (DIP; 14 Leads; Row Spacing 7.62 mm; Pitch 2.54 mm)
3D model N14A (DIP; 14 Leads; Row Spacing 7.62 mm; Pitch 2.54 mm)
signal-integrity model DM74AS1008AN
pins on every part: 7 GND (power) hidden to GND, 14 VCC (power) hidden to VCC
part A pins: 1 A (in), 2 B (in), 3 Y (out)
part B pins: 4 A (in), 5 B (in), 6 Y (out)
part C pins: 8 Y (out), 9 A (in), 10 B (in)
part D pins: 11 Y (out), 12 A (in), 13 B (in)

## DM74AS1036AM
designator U?
Quad 2-Input NOR Driver; Published: 15-Apr-2002; LatestRevisionDate: 13-Apr-2006; LatestRevisionNote: IPC-7351 Footprint Added.; DatasheetVersion: 1990; PackageVersion: 2000; PackageReference: M14A; Publisher: Altium Limited; PackageDescription: 14-Pin Small Outline Integrated Circuit 1.27 mm Pitch; Code_IPC: SOIC127P600-14; ComponentLink1Description: Manufacturer Link; ComponentLink1URL: http://www.national.com/
footprint M14A_N (SOIC, 14-Leads, Body 8.6x3.9mm, Pitch 1.27mm, IPC Medium Density)
footprint M14A_L (SOIC, 14-Leads, Body 8.6x3.9mm, Pitch 1.27mm, IPC High Density)
footprint M14A_M (SOIC, 14-Leads, Body 8.6x3.9mm, Pitch 1.27mm, IPC Low Density)
3D model M14A (14-Pin Small Outline Integrated Circuit 1.27 mm Pitch)
signal-integrity model DM74AS1036AM
pins on every part: 7 GND (power) hidden to GND, 14 VCC (power) hidden to VCC
part A pins: 1 A (in), 2 B (in), 3 Y (out)
part B pins: 4 A (in), 5 B (in), 6 Y (out)
part C pins: 8 Y (out), 9 A (in), 10 B (in)
part D pins: 11 Y (out), 12 A (in), 13 B (in)

## DM74AS1036AN
designator U?
Quad 2-Input NOR Driver; Published: 15-Apr-2002; LatestRevisionDate: 06-Jun-2005; LatestRevisionNote: Stylized 3D Model Added.; DatasheetVersion: 1990; PackageVersion: 2000; PackageReference: N14A; Publisher: Altium Limited; PackageDescription: DIP; 14 Leads; Row Spacing 7.62 mm; Pitch 2.54 mm; ComponentLink1Description: Manufacturer Link; ComponentLink1URL: http://www.national.com/
footprint N14A (DIP; 14 Leads; Row Spacing 7.62 mm; Pitch 2.54 mm)
3D model N14A (DIP; 14 Leads; Row Spacing 7.62 mm; Pitch 2.54 mm)
signal-integrity model DM74AS1036AN
pins on every part: 7 GND (power) hidden to GND, 14 VCC (power) hidden to VCC
part A pins: 1 A (in), 2 B (in), 3 Y (out)
part B pins: 4 A (in), 5 B (in), 6 Y (out)
part C pins: 8 Y (out), 9 A (in), 10 B (in)
part D pins: 11 Y (out), 12 A (in), 13 B (in)

## DM74AS1808N
designator U?
Hex 2-Input AND Driver; Published: 15-Apr-2002; LatestRevisionDate: 06-Jun-2005; LatestRevisionNote: Stylized 3D Model Added.; DatasheetVersion: 1990; PackageVersion: 2000; PackageReference: N20A; Publisher: Altium Limited; PackageDescription: DIP; 20 Leads; Row Spacing 7.62 mm; Pitch 2.54 mm; Code_JEDEC: MS-001-AD; ComponentLink1Description: Manufacturer Link; ComponentLink1URL: http://www.national.com/
footprint N20A (DIP; 20 Leads; Row Spacing 7.62 mm; Pitch 2.54 mm)
3D model N20A (DIP; 20 Leads; Row Spacing 7.62 mm; Pitch 2.54 mm)
signal-integrity model DM74AS1808N
pins on every part: 5 VCC (power) hidden to VCC, 15 GND (power) hidden to GND
part A pins: 6 A (in), 7 B (in), 8 Y (out)
part B pins: 9 A (in), 10 B (in), 11 Y (out)
part C pins: 12 A (in), 13 B (in), 14 Y (out)
part D pins: 16 Y (out), 17 A (in), 18 B (in)
part E pins: 1 B (in), 19 Y (out), 20 A (in)
part F pins: 2 Y (out), 3 A (in), 4 B (in)

## DM74AS1808WM
designator U?
Hex 2-Input AND Driver; Published: 15-Apr-2002; LatestRevisionDate: 13-Apr-2006; LatestRevisionNote: IPC-7351 Footprint Added.; DatasheetVersion: 1990; PackageVersion: 2000; PackageReference: M20B; Publisher: Altium Limited; PackageDescription: 20-Pin Small Outline Integrated Circuit 1.27 mm Pitch; Code_JEDEC: MS-013-AC; Code_IPC: SOIC127P1030-20; ComponentLink1Description: Manufacturer Link; ComponentLink1URL: http://www.national.com/
footprint M20B_N (SOIC, 20-Leads, Body 12.8x7.5mm, Pitch 1.27mm, IPC Medium Density)
footprint M20B_L (SOIC, 20-Leads, Body 12.8x7.5mm, Pitch 1.27mm, IPC High Density)
footprint M20B_M (SOIC, 20-Leads, Body 12.8x7.5mm, Pitch 1.27mm, IPC Low Density)
3D model M20B (20-Pin Small Outline Integrated Circuit 1.27 mm Pitch)
signal-integrity model DM74AS1808WM
pins on every part: 5 VCC (power) hidden to VCC, 15 GND (power) hidden to GND
part A pins: 6 A (in), 7 B (in), 8 Y (out)
part B pins: 9 A (in), 10 B (in), 11 Y (out)
part C pins: 12 A (in), 13 B (in), 14 Y (out)
part D pins: 16 Y (out), 17 A (in), 18 B (in)
part E pins: 1 B (in), 19 Y (out), 20 A (in)
part F pins: 2 Y (out), 3 A (in), 4 B (in)

## DM74AS1832M
designator U?
Hex 2-Input OR Driver; Published: 15-Apr-2002; LatestRevisionDate: 13-Apr-2006; LatestRevisionNote: IPC-7351 Footprint Added.; DatasheetVersion: 1990; PackageVersion: 2000; PackageReference: M20B; Publisher: Altium Limited; PackageDescription: 20-Pin Small Outline Integrated Circuit 1.27 mm Pitch; Code_JEDEC: MS-013-AC; Code_IPC: SOIC127P1030-20; ComponentLink1Description: Manufacturer Link; ComponentLink1URL: http://www.national.com/
footprint M20B_N (SOIC, 20-Leads, Body 12.8x7.5mm, Pitch 1.27mm, IPC Medium Density)
footprint M20B_L (SOIC, 20-Leads, Body 12.8x7.5mm, Pitch 1.27mm, IPC High Density)
footprint M20B_M (SOIC, 20-Leads, Body 12.8x7.5mm, Pitch 1.27mm, IPC Low Density)
3D model M20B (20-Pin Small Outline Integrated Circuit 1.27 mm Pitch)
signal-integrity model DM74AS1832M
pins on every part: 5 VCC (power) hidden to VCC, 15 GND (power) hidden to GND
part A pins: 6 A (in), 7 B (in), 8 Y (out)
part B pins: 9 A (in), 10 B (in), 11 Y (out)
part C pins: 12 A (in), 13 B (in), 14 Y (out)
part D pins: 16 Y (out), 17 A (in), 18 B (in)
part E pins: 1 B (in), 19 Y (out), 20 A (in)
part F pins: 2 Y (out), 3 A (in), 4 B (in)

## DM74AS1832N
designator U?
Hex 2-Input OR Driver; Published: 15-Apr-2002; LatestRevisionDate: 06-Jun-2005; LatestRevisionNote: Stylized 3D Model Added.; DatasheetVersion: 1990; PackageVersion: 2000; PackageReference: N20A; Publisher: Altium Limited; PackageDescription: DIP; 20 Leads; Row Spacing 7.62 mm; Pitch 2.54 mm; Code_JEDEC: MS-001-AD; ComponentLink1Description: Manufacturer Link; ComponentLink1URL: http://www.national.com/
footprint N20A (DIP; 20 Leads; Row Spacing 7.62 mm; Pitch 2.54 mm)
3D model N20A (DIP; 20 Leads; Row Spacing 7.62 mm; Pitch 2.54 mm)
signal-integrity model DM74AS1832N
pins on every part: 5 VCC (power) hidden to VCC, 15 GND (power) hidden to GND
part A pins: 6 A (in), 7 B (in), 8 Y (out)
part B pins: 9 A (in), 10 B (in), 11 Y (out)
part C pins: 12 A (in), 13 B (in), 14 Y (out)
part D pins: 16 Y (out), 17 A (in), 18 B (in)
part E pins: 1 B (in), 19 Y (out), 20 A (in)
part F pins: 2 Y (out), 3 A (in), 4 B (in)

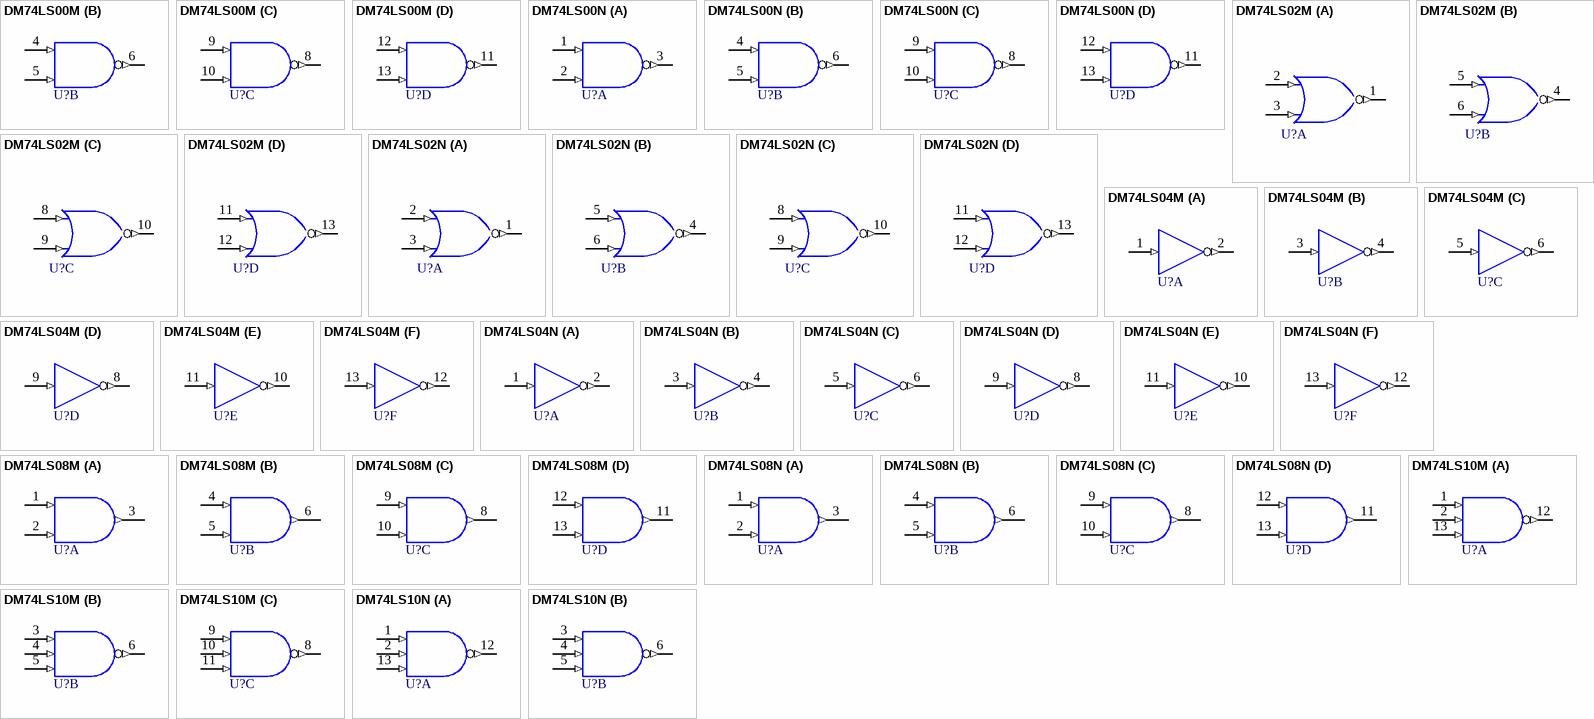
[diagram p34: symbols DM74LS00M to DM74LS10N]

## DM74LS00M
designator U?
Quad 2-Input NAND Gate; Published: 15-Apr-2002; LatestRevisionDate: 13-Apr-2006; LatestRevisionNote: IPC-7351 Footprint Added.; DatasheetVersion: Jun-1989; PackageVersion: 2000; PackageReference: M14A; Publisher: Altium Limited; PackageDescription: 14-Pin Small Outline Integrated Circuit 1.27 mm Pitch; Code_IPC: SOIC127P600-14; ComponentLink1Description: Manufacturer Link; ComponentLink1URL: http://www.national.com/; ComponentLink2Description: URL Link1; ComponentLink2URL: http://www.national.com/pf/54/54LS00.html
footprint M14A_N (SOIC, 14-Leads, Body 8.6x3.9mm, Pitch 1.27mm, IPC Medium Density)
footprint M14A_L (SOIC, 14-Leads, Body 8.6x3.9mm, Pitch 1.27mm, IPC High Density)
footprint M14A_M (SOIC, 14-Leads, Body 8.6x3.9mm, Pitch 1.27mm, IPC Low Density)
3D model M14A (14-Pin Small Outline Integrated Circuit 1.27 mm Pitch)
simulation model NSC_74LS00 (SIMCODE)
signal-integrity model DM74LS00M
pins on every part: 7 GND (power) hidden to GND, 14 VCC (power) hidden to VCC
part A pins: 1 A (in), 2 B (in), 3 Y (out)
part B pins: 4 A (in), 5 B (in), 6 Y (out)
part C pins: 8 Y (out), 9 A (in), 10 B (in)
part D pins: 11 Y (out), 12 A (in), 13 B (in)

## DM74LS00N
designator U?
Quad 2-Input NAND Gate; Published: 15-Apr-2002; LatestRevisionDate: 06-Jun-2005; LatestRevisionNote: Stylized 3D Model Added.; DatasheetVersion: Jun-1989; PackageVersion: 2000; PackageReference: N14A; Publisher: Altium Limited; PackageDescription: DIP; 14 Leads; Row Spacing 7.62 mm; Pitch 2.54 mm; ComponentLink1Description: Manufacturer Link; ComponentLink1URL: http://www.national.com/; ComponentLink2Description: URL Link1; ComponentLink2URL: http://www.national.com/pf/54/54LS00.html
footprint N14A (DIP; 14 Leads; Row Spacing 7.62 mm; Pitch 2.54 mm)
3D model N14A (DIP; 14 Leads; Row Spacing 7.62 mm; Pitch 2.54 mm)
simulation model NSC_74LS00 (SIMCODE)
signal-integrity model DM74LS00N
pins on every part: 7 GND (power) hidden to GND, 14 VCC (power) hidden to VCC
part A pins: 1 A (in), 2 B (in), 3 Y (out)
part B pins: 4 A (in), 5 B (in), 6 Y (out)
part C pins: 8 Y (out), 9 A (in), 10 B (in)
part D pins: 11 Y (out), 12 A (in), 13 B (in)

## DM74LS02M
designator U?
Quad 2-Input NOR Gate; Published: 15-Apr-2002; LatestRevisionDate: 13-Apr-2006; LatestRevisionNote: IPC-7351 Footprint Added.; DatasheetVersion: Jun-1989; PackageVersion: 2000; PackageReference: M14A; Publisher: Altium Limited; PackageDescription: 14-Pin Small Outline Integrated Circuit 1.27 mm Pitch; Code_IPC: SOIC127P600-14; ComponentLink1Description: Manufacturer Link; ComponentLink1URL: http://www.national.com/; ComponentLink2Description: URL Link1; ComponentLink2URL: http://www.national.com/pf/54/54LS02.html
footprint M14A_N (SOIC, 14-Leads, Body 8.6x3.9mm, Pitch 1.27mm, IPC Medium Density)
footprint M14A_L (SOIC, 14-Leads, Body 8.6x3.9mm, Pitch 1.27mm, IPC High Density)
footprint M14A_M (SOIC, 14-Leads, Body 8.6x3.9mm, Pitch 1.27mm, IPC Low Density)
3D model M14A (14-Pin Small Outline Integrated Circuit 1.27 mm Pitch)
simulation model NSC_74LS02 (SIMCODE)
signal-integrity model DM74LS02M
pins on every part: 7 GND (power) hidden to GND, 14 VCC (power) hidden to VCC
part A pins: 1 Y (out), 2 A (in), 3 B (in)
part B pins: 4 Y (out), 5 A (in), 6 B (in)
part C pins: 8 A (in), 9 B (in), 10 Y (out)
part D pins: 11 A (in), 12 B (in), 13 Y (out)

## DM74LS02N
designator U?
Quad 2-Input NOR Gate; Published: 15-Apr-2002; LatestRevisionDate: 06-Jun-2005; LatestRevisionNote: Stylized 3D Model Added.; DatasheetVersion: Jun-1989; PackageVersion: 2000; PackageReference: N14A; Publisher: Altium Limited; PackageDescription: DIP; 14 Leads; Row Spacing 7.62 mm; Pitch 2.54 mm; ComponentLink1Description: Manufacturer Link; ComponentLink1URL: http://www.national.com/; ComponentLink2Description: URL Link1; ComponentLink2URL: http://www.national.com/pf/54/54LS02.html
footprint N14A (DIP; 14 Leads; Row Spacing 7.62 mm; Pitch 2.54 mm)
3D model N14A (DIP; 14 Leads; Row Spacing 7.62 mm; Pitch 2.54 mm)
simulation model NSC_74LS02 (SIMCODE)
signal-integrity model DM74LS02N
pins on every part: 7 GND (power) hidden to GND, 14 VCC (power) hidden to VCC
part A pins: 1 Y (out), 2 A (in), 3 B (in)
part B pins: 4 Y (out), 5 A (in), 6 B (in)
part C pins: 8 A (in), 9 B (in), 10 Y (out)
part D pins: 11 A (in), 12 B (in), 13 Y (out)

## DM74LS04M
designator U?
Hex Inverter; Published: 15-Apr-2002; LatestRevisionDate: 13-Apr-2006; LatestRevisionNote: IPC-7351 Footprint Added.; DatasheetVersion: Jun-1989; PackageVersion: 2000; PackageReference: M14A; Publisher: Altium Limited; PackageDescription: 14-Pin Small Outline Integrated Circuit 1.27 mm Pitch; Code_IPC: SOIC127P600-14; ComponentLink1Description: Manufacturer Link; ComponentLink1URL: http://www.national.com/; ComponentLink2Description: Datasheet; ComponentLink2URL: http://www.national.com/ds.cgi/54/54LS04.pdf; ComponentLink3Description: URL Link1; ComponentLink3URL: http://www.national.com/pf/DM/DM54LS04.html
footprint M14A_N (SOIC, 14-Leads, Body 8.6x3.9mm, Pitch 1.27mm, IPC Medium Density)
footprint M14A_L (SOIC, 14-Leads, Body 8.6x3.9mm, Pitch 1.27mm, IPC High Density)
footprint M14A_M (SOIC, 14-Leads, Body 8.6x3.9mm, Pitch 1.27mm, IPC Low Density)
3D model M14A (14-Pin Small Outline Integrated Circuit 1.27 mm Pitch)
simulation model NSC_74LS04 (SIMCODE)
signal-integrity model DM74LS04M
pins on every part: 7 GND (power) hidden to GND, 14 VCC (power) hidden to VCC
part A pins: 1 A (in), 2 Y (out)
part B pins: 3 A (in), 4 Y (out)
part C pins: 5 A (in), 6 Y (out)
part D pins: 8 Y (out), 9 A (in)
part E pins: 10 Y (out), 11 A (in)
part F pins: 12 Y (out), 13 A (in)

## DM74LS04N
designator U?
Hex Inverter; Published: 15-Apr-2002; LatestRevisionDate: 06-Jun-2005; LatestRevisionNote: Stylized 3D Model Added.; DatasheetVersion: Jun-1989; PackageVersion: 2000; PackageReference: N14A; Publisher: Altium Limited; PackageDescription: DIP; 14 Leads; Row Spacing 7.62 mm; Pitch 2.54 mm; ComponentLink1Description: Manufacturer Link; ComponentLink1URL: http://www.national.com/; ComponentLink2Description: Datasheet; ComponentLink2URL: http://www.national.com/ds.cgi/54/54LS04.pdf; ComponentLink3Description: URL Link1; ComponentLink3URL: http://www.national.com/pf/DM/DM54LS04.html
footprint N14A (DIP; 14 Leads; Row Spacing 7.62 mm; Pitch 2.54 mm)
3D model N14A (DIP; 14 Leads; Row Spacing 7.62 mm; Pitch 2.54 mm)
simulation model NSC_74LS04 (SIMCODE)
signal-integrity model DM74LS04N
pins on every part: 7 GND (power) hidden to GND, 14 VCC (power) hidden to VCC
part A pins: 1 A (in), 2 Y (out)
part B pins: 3 A (in), 4 Y (out)
part C pins: 5 A (in), 6 Y (out)
part D pins: 8 Y (out), 9 A (in)
part E pins: 10 Y (out), 11 A (in)
part F pins: 12 Y (out), 13 A (in)

## DM74LS08M
designator U?
Quad 2-Input AND Gate; Published: 15-Apr-2002; LatestRevisionDate: 13-Apr-2006; LatestRevisionNote: IPC-7351 Footprint Added.; DatasheetVersion: Jun-1989; PackageVersion: 2000; PackageReference: M14A; Publisher: Altium Limited; PackageDescription: 14-Pin Small Outline Integrated Circuit 1.27 mm Pitch; Code_IPC: SOIC127P600-14; ComponentLink1Description: Manufacturer Link; ComponentLink1URL: http://www.national.com/; ComponentLink2Description: Datasheet; ComponentLink2URL: http://www.national.com/ds.cgi/54/54LS08.pdf; ComponentLink3Description: URL Link1; ComponentLink3URL: http://www.national.com/pf/DM/DM54LS08.html
footprint M14A_N (SOIC, 14-Leads, Body 8.6x3.9mm, Pitch 1.27mm, IPC Medium Density)
footprint M14A_L (SOIC, 14-Leads, Body 8.6x3.9mm, Pitch 1.27mm, IPC High Density)
footprint M14A_M (SOIC, 14-Leads, Body 8.6x3.9mm, Pitch 1.27mm, IPC Low Density)
3D model M14A (14-Pin Small Outline Integrated Circuit 1.27 mm Pitch)
simulation model NSC_74LS08 (SIMCODE)
signal-integrity model DM74LS08M
pins on every part: 7 GND (power) hidden to GND, 14 VCC (power) hidden to VCC
part A pins: 1 A (in), 2 B (in), 3 Y (out)
part B pins: 4 A (in), 5 B (in), 6 Y (out)
part C pins: 8 Y (out), 9 A (in), 10 B (in)
part D pins: 11 Y (out), 12 A (in), 13 B (in)

## DM74LS08N
designator U?
Quad 2-Input AND Gate; Published: 15-Apr-2002; LatestRevisionDate: 06-Jun-2005; LatestRevisionNote: Stylized 3D Model Added.; DatasheetVersion: Jun-1989; PackageVersion: 2000; PackageReference: N14A; Publisher: Altium Limited; PackageDescription: DIP; 14 Leads; Row Spacing 7.62 mm; Pitch 2.54 mm; ComponentLink1Description: Manufacturer Link; ComponentLink1URL: http://www.national.com/; ComponentLink2Description: Datasheet; ComponentLink2URL: http://www.national.com/ds.cgi/54/54LS08.pdf; ComponentLink3Description: URL Link1; ComponentLink3URL: http://www.national.com/pf/DM/DM54LS08.html
footprint N14A (DIP; 14 Leads; Row Spacing 7.62 mm; Pitch 2.54 mm)
3D model N14A (DIP; 14 Leads; Row Spacing 7.62 mm; Pitch 2.54 mm)
simulation model NSC_74LS08 (SIMCODE)
signal-integrity model DM74LS08N
pins on every part: 7 GND (power) hidden to GND, 14 VCC (power) hidden to VCC
part A pins: 1 A (in), 2 B (in), 3 Y (out)
part B pins: 4 A (in), 5 B (in), 6 Y (out)
part C pins: 8 Y (out), 9 A (in), 10 B (in)
part D pins: 11 Y (out), 12 A (in), 13 B (in)

## DM74LS10M
designator U?
Triple 3-Input NAND Gate; Published: 15-Apr-2002; LatestRevisionDate: 13-Apr-2006; LatestRevisionNote: IPC-7351 Footprint Added.; DatasheetVersion: Jun-1989; PackageVersion: 2000; PackageReference: M14A; Publisher: Altium Limited; PackageDescription: 14-Pin Small Outline Integrated Circuit 1.27 mm Pitch; Code_IPC: SOIC127P600-14; ComponentLink1Description: Manufacturer Link; ComponentLink1URL: http://www.national.com/; ComponentLink2Description: Datasheet; ComponentLink2URL: http://www.national.com/ds.cgi/54/54LS10.pdf; ComponentLink3Description: URL Link1; ComponentLink3URL: http://www.national.com/pf/DM/DM54LS10.html
footprint M14A_N (SOIC, 14-Leads, Body 8.6x3.9mm, Pitch 1.27mm, IPC Medium Density)
footprint M14A_L (SOIC, 14-Leads, Body 8.6x3.9mm, Pitch 1.27mm, IPC High Density)
footprint M14A_M (SOIC, 14-Leads, Body 8.6x3.9mm, Pitch 1.27mm, IPC Low Density)
3D model M14A (14-Pin Small Outline Integrated Circuit 1.27 mm Pitch)
simulation model NSC_74LS10 (SIMCODE)
signal-integrity model DM74LS10M
pins on every part: 7 GND (power) hidden to GND, 14 VCC (power) hidden to VCC
part A pins: 1 A (in), 2 B (in), 12 Y (out), 13 C (in)
part B pins: 3 A (in), 4 B (in), 5 C (in), 6 Y (out)
part C pins: 8 Y (out), 9 A (in), 10 B (in), 11 C (in)

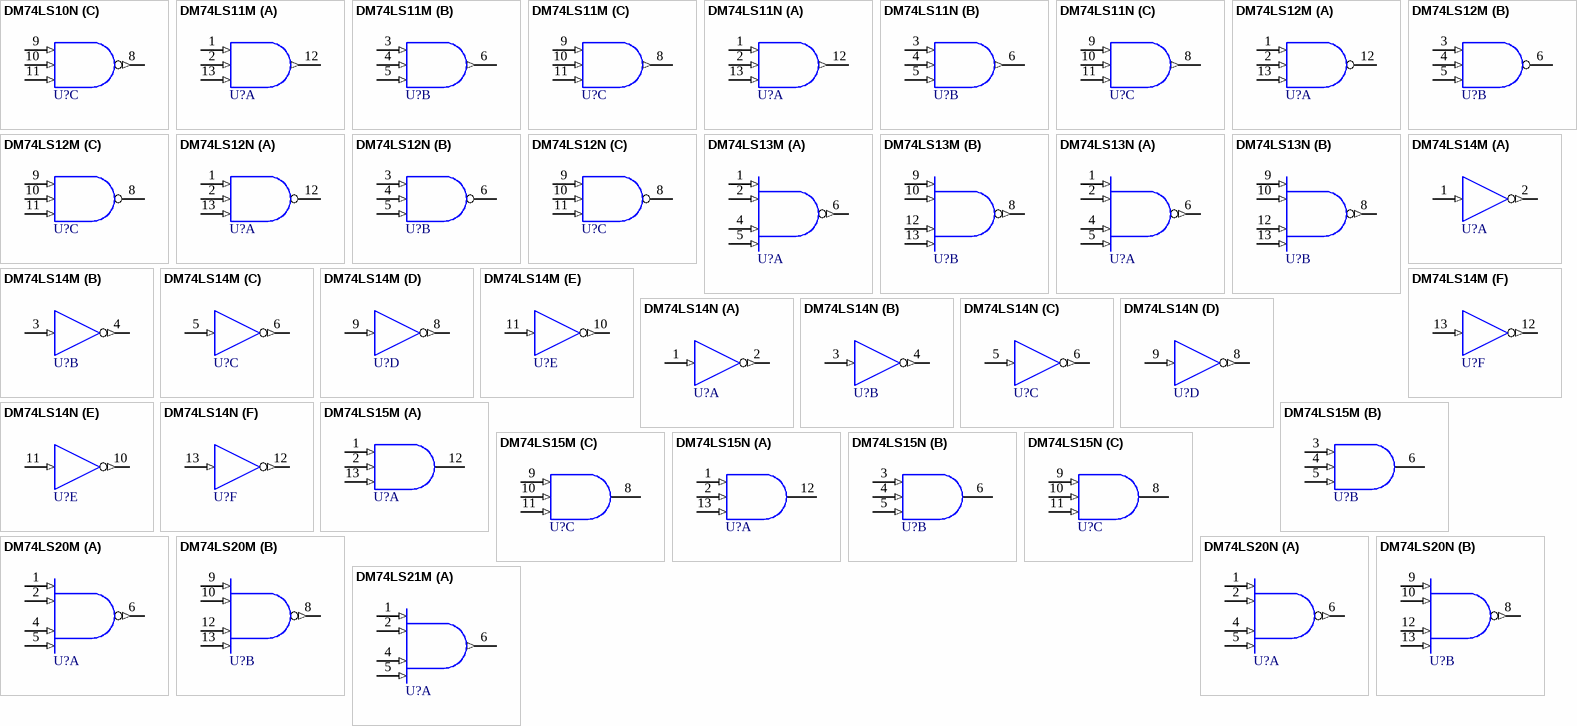
[diagram p35: symbols DM74LS10N to DM74LS21M]

## DM74LS10N
designator U?
Triple 3-Input NAND Gate; Published: 15-Apr-2002; LatestRevisionDate: 06-Jun-2005; LatestRevisionNote: Stylized 3D Model Added.; DatasheetVersion: Jun-1989; PackageVersion: 2000; PackageReference: N14A; Publisher: Altium Limited; PackageDescription: DIP; 14 Leads; Row Spacing 7.62 mm; Pitch 2.54 mm; ComponentLink1Description: Manufacturer Link; ComponentLink1URL: http://www.national.com/; ComponentLink2Description: Datasheet; ComponentLink2URL: http://www.national.com/ds.cgi/54/54LS10.pdf; ComponentLink3Description: URL Link1; ComponentLink3URL: http://www.national.com/pf/DM/DM54LS10.html
footprint N14A (DIP; 14 Leads; Row Spacing 7.62 mm; Pitch 2.54 mm)
3D model N14A (DIP; 14 Leads; Row Spacing 7.62 mm; Pitch 2.54 mm)
simulation model NSC_74LS10 (SIMCODE)
signal-integrity model DM74LS10N
pins on every part: 7 GND (power) hidden to GND, 14 VCC (power) hidden to VCC
part A pins: 1 A (in), 2 B (in), 12 Y (out), 13 C (in)
part B pins: 3 A (in), 4 B (in), 5 C (in), 6 Y (out)
part C pins: 8 Y (out), 9 A (in), 10 B (in), 11 C (in)